# Altium schematic symbol library DebouncingToolESD.SchLib: 30 symbols
Pins are listed as number, name and electrical type; pins without a type are passive.

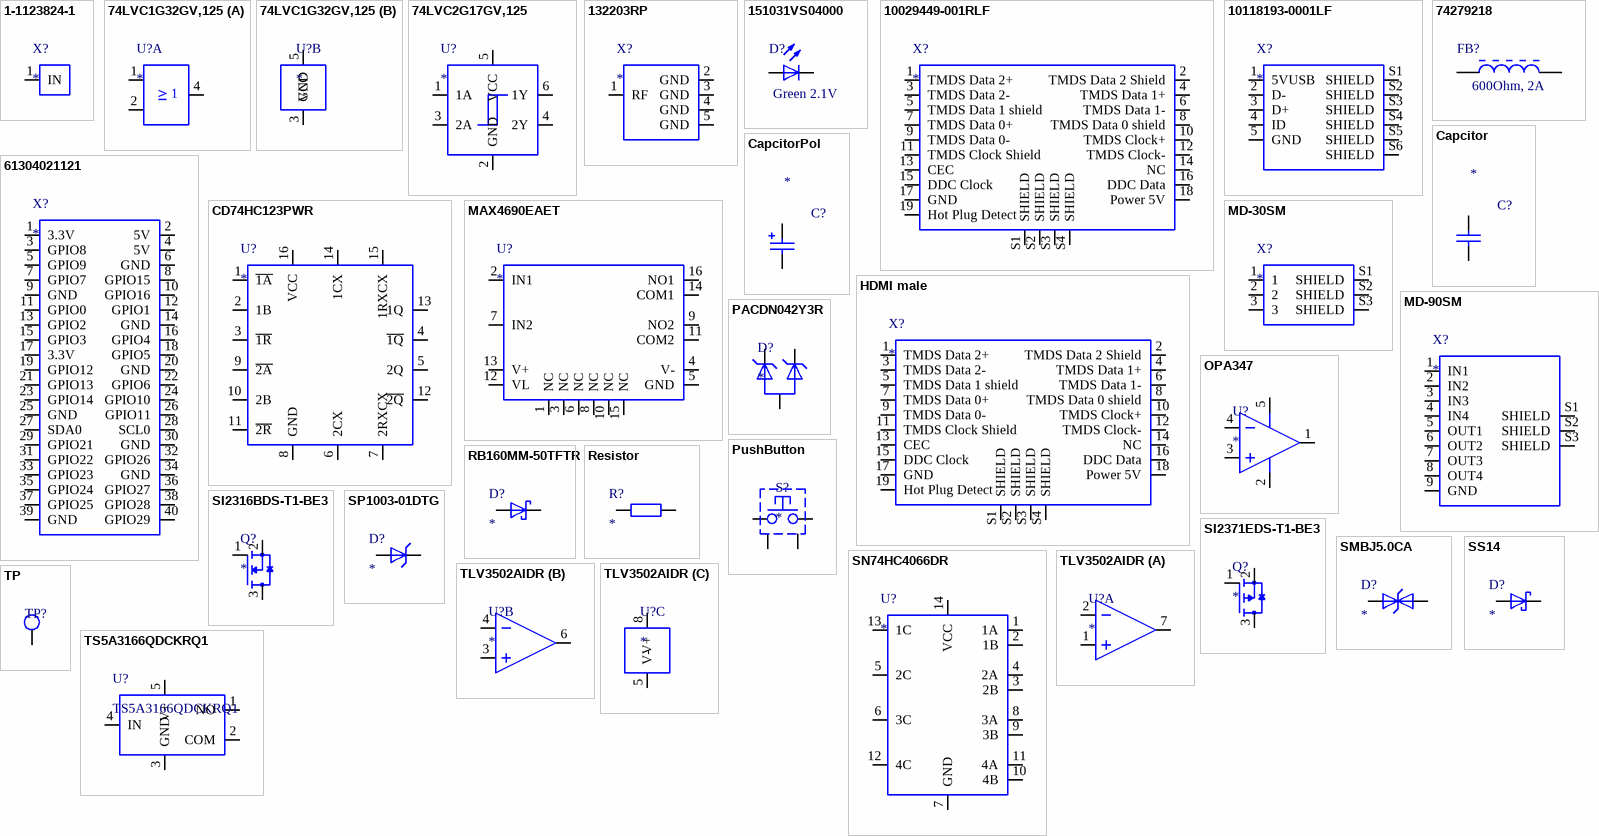
[diagram p0: symbols 1-1123824-1 to TS5A3166QDCKRQ1]

## 1-1123824-1
designator X?
Conn Shrouded Header HDR 1 POS Solder ST Thru-Hole Automotive Bag; MF: TE Connectivity; MP: 1-1123824-1; Package: None; Digi-Key_Part_Number: A30708-ND; Digi-Key_Purchase_URL: https://www.digikey.com/product-detail/en/te-connectivity-amp-connectors/1-1123824-1/A30708-ND/686939?utm_source=snapeda&utm_medium=aggregator&utm_campaign=symbol; Value: *; EU_RoHS_Compliance: Compliant; TE_purchase_URL: https://www.te.com/usa-en/product-1-1123824-1.html?te_bu=Cor&te_type=disp&te_campaign=seda_glo_cor-seda-global-disp-prtnr-fy19-seda-model-bom-cta_sma-317_1&elqCampaignId=32493; SnapEDA_Link: https://www.snapeda.com/parts/1-1123824-1/TE%20Connectivity%20AMP%20Connectors/view-part/1763302/?ref=snap
footprint TE_1-1123824-1
pins: 1 IN

## 74LVC1G32GV,125
designator U?
OR Gate
footprint SOT95P280X145-5N
part A pins: 1 A, 2 B, 4 Y
part B pins: 3 GND, 5 VCC

## 74LVC2G17GV,125
designator U?
Trigger de Schmitt
footprint SOT65P210X110-6N
pins: 1 1A, 2 GND, 3 2A, 4 2Y, 5 VCC, 6 1Y

## 132203RP
designator X?
RP-SMA Connector Jack, Male Pin 50Ohm Panel Mount, Through Hole, Right Angle Solder; MF: Amphenol RF; MP: 132203RP; Digi-Key_Purchase_URL: https://www.digikey.com/product-detail/en/amphenol-rf/132203RP/ACX1235-ND/1011912?utm_source=snapeda&utm_medium=aggregator&utm_campaign=symbol; Digi-Key_Part_Number: ACX1235-ND; Package: None; SnapEDA_Link: https://www.snapeda.com/parts/132203RP/Amphenol%20RF%20Division/view-part/425331/?ref=snap; Value: *
footprint AMPHENOL_132203RP
pins: 1 RF, 2 GND, 3 GND, 4 GND, 5 GND

## 151031VS04000
designator D?, comment Green 2.1V
WL-TMRC THT Mono-color Round Color, size 3mm, Bright Green, 2.1V, 40deg; Part Number: 151031VS04000; Luminous Intensity: 120mcd; Dominant Wavelength: 570nm; Peak Wavelength: 573nm; Chip Technology: AlInGaP; ComponentLink1Description: Manufacturer; ComponentLink1URL: http://www.we-online.de; ComponentLink2Description: Datasheet; ComponentLink2URL: https://katalog.we-online.de/led/datasheet/151031VS04000.pdf; Emitting Color: Bright Green; Operating Temperature: -40 to +85degC; Mounting Technology: THT; Forward Voltage: 2.1V; Packaging: Bulk; Published Date: January 2021; Publisher: Wurth Elektronik; Size: 3mm; Viewing Angle: 40deg
footprint WL-TMRC_3mm (THT Mono-color Round Color LED, 2-leads)
pins: 1 A, 2 K

## 10029449-001RLF
designator X?
HDMI HDMIâ„¢ 1.4 Receptacle Connector 19 Position Surface Mount, Right Angle; Through Hole; MP: 10029449-001RLF; MF: Amphenol ICC; Price: None; Package: None; Value: *; Availability: Unavailable; SnapEDA_Link: https://www.snapeda.com/parts/10029449-001RLF/Amphenol%20FCI/view-part/1592408/?ref=snap
footprint AMPHENOL_10029449-001RLF
pins: 1 TMDS Data 2+, 2 TMDS Data 2 Shield, 3 TMDS Data 2-, 4 TMDS Data 1+, 5 TMDS Data 1 shield, 6 TMDS Data 1-, 7 TMDS Data 0+, 8 TMDS Data 0 shield, 9 TMDS Data 0-, 10 TMDS Clock+, 11 TMDS Clock Shield, 12 TMDS Clock-, 13 CEC, 14 NC, 15 DDC Clock, 16 DDC Data, 17 GND, 18 Power 5V, 19 Hot Plug Detect, S1 SHIELD, S2 SHIELD, S3 SHIELD, S4 SHIELD

## 10118193-0001LF
designator X?
USB - micro B USB 2.0 Receptacle Connector 5 Position Surface Mount, Right Angle; Through Hole; MP: 10118193-0001LF; MF: Amphenol ICC; Availability: Unavailable; SnapEDA_Link: https://www.snapeda.com/parts/10118193-0001LF/Amphenol%20FCI/view-part/2758989/?ref=snap; Price: None; Value: *; Package: None
footprint FCI_10118193-0001LF
pins: 1 5VUSB, 2 D-, 3 D+, 4 ID, 5 GND, S1 SHIELD, S2 SHIELD, S3 SHIELD, S4 SHIELD, S5 SHIELD, S6 SHIELD

## 74279218
designator FB?, comment 600Ohm, 2A
WE-CBF SMT EMI Suppression Ferrite Bead, size 1206, 600Ohm, 2A; Manufacturer Part Number: 74279218; Manufacturer: Wurth Elektronik; Impedance max.: 700Ohm; DC Resistance max.: 0.1Ohm; Type: High Current; ComponentLink1Description: Manufacturer; ComponentLink1URL: http://www.we-online.de; ComponentLink2Description: Datasheet; ComponentLink2URL: https://www.we-online.com/catalog/datasheet/74279218.pdf; Operating Temperature: -55 to +125degC; Packaging: Tape and Reel; Published Date: March 2020; Rated Current: 2A; Impedance @100MHz: 600Ohm; Mounting Technology: SMT; Size: 1206
footprint WE-CBF_1206_High Speed (SMD EMI Suppression Ferrite  Bead, body 3.2x1.6mm)
pins: 1, 2

## 61304021121
designator X?
Connector; Manufacturer_Name: Wurth Elektronik; Manufacturer_Part_Number: 61304021121; Datasheet Link: https://katalog.we-online.com/em/datasheet/6130xx21121.pdf; Height: 8.69mm; Mouser Part Number: 710-61304021121; Mouser Price/Stock: https://www.mouser.co.uk/ProductDetail/Wurth-Elektronik/61304021121?qs=PhR8RmCirEYWKI5WqdDUyg%3D%3D
footprint 61304021121 (Pin Header, pitch 2.54 mm, THT, Vertical, dual row, 40p)
pins: 1 3.3V, 2 5V, 3 GPIO8, 4 5V, 5 GPIO9, 6 GND, 7 GPIO7, 8 GPIO15, 9 GND, 10 GPIO16, 11 GPIO0, 12 GPIO1, 13 GPIO2, 14 GND, 15 GPIO3, 16 GPIO4, 17 3.3V, 18 GPIO5, 19 GPIO12, 20 GND, 21 GPIO13, 22 GPIO6, 23 GPIO14, 24 GPIO10, 25 GND, 26 GPIO11, 27 SDA0, 28 SCL0, 29 GPIO21, 30 GND, 31 GPIO22, 32 GPIO26, 33 GPIO23, 34 GND, 35 GPIO24, 36 GPIO27, 37 GPIO25, 38 GPIO28, 39 GND, 40 GPIO29

## Capcitor
designator C?
Published: 8-Jun-2000; LatestRevisionDate: 17-Jul-2002; LatestRevisionNote: Re-released for DXP Platform.; PackageReference: RAD-0.3; Publisher: Altium Limited; PackageDescription: Radial Cap, Thru-Hole; 2 Leads; 0.3 in Pin Spacing
footprint CAPC1005X55N_0402
pins: 1, 2

## CapcitorPol
designator C?
Published: 8-Jun-2000; LatestRevisionDate: 17-Jul-2002; LatestRevisionNote: Re-released for DXP Platform.; PackageReference: RAD-0.3; Publisher: Altium Limited; PackageDescription: Radial Cap, Thru-Hole; 2 Leads; 0.3 in Pin Spacing
footprint CAP_EEEHD1A101AP
pins: 1 POS, 2 NEG

## CD74HC123PWR
designator U?
MP: CD74HC123PWR; Package: None; Price: None; Value: *; Availability: Unavailable
footprint SOP65P640X120-16N
pins: 1 ~{1A}, 2 1B, 3 ~{1R}, 4 ~{1Q}, 5 2Q, 6 2CX, 7 2RXCX, 8 GND, 9 ~{2A}, 10 2B, 11 ~{2R}, 12 ~{2Q}, 13 1Q, 14 1CX, 15 1RXCX, 16 VCC

## HDMI male
designator X?
Gold Plated HDMI 1.6mm 19Pin PCB Chassis SMD Socket Male Plug Connector; MP: 10029449-001RLF; MF: Amphenol ICC; Price: None; Package: None; Value: *; Availability: Unavailable; SnapEDA_Link: https://www.snapeda.com/parts/10029449-001RLF/Amphenol%20FCI/view-part/1592408/?ref=snap
footprint HDMI_MALE
pins: 1 TMDS Data 2+, 2 TMDS Data 2 Shield, 3 TMDS Data 2-, 4 TMDS Data 1+, 5 TMDS Data 1 shield, 6 TMDS Data 1-, 7 TMDS Data 0+, 8 TMDS Data 0 shield, 9 TMDS Data 0-, 10 TMDS Clock+, 11 TMDS Clock Shield, 12 TMDS Clock-, 13 CEC, 14 NC, 15 DDC Clock, 16 DDC Data, 17 GND, 18 Power 5V, 19 Hot Plug Detect, S1 SHIELD, S2 SHIELD, S3 SHIELD, S4 SHIELD

## MAX4690EAET
designator U?
MP: MAX4690EAET; Package: None; Price: None; Value: *; Availability: Unavailable
footprint SOP65P640X120-16N
pins: 1 NC, 2 IN1, 3 NC, 4 V-, 5 GND, 6 NC, 7 IN2, 8 NC, 9 NO2, 10 NC, 11 COM2, 12 VL, 13 V+, 14 COM1, 15 NC, 16 NO1

## MD-30SM
designator X?
3 Positions, Receptacle, Right Angle, Through Hole, Shielded, Mini Circular DIN Connector; MP: MD-30SM; Price: None; Availability: Unavailable; Package: None; Value: *
footprint CUI_MD-30SM
pins: 1, 2, 3, S1 SHIELD, S2 SHIELD, S3 SHIELD

## MD-90SM
designator X?
9 Positions, Receptacle, Right Angle, Through Hole, Shielded, Mini Circular DIN Connector; MP: MD-90SM; Price: None; Availability: Unavailable; Value: *; Package: None
footprint CUI_MD-90SM
pins: 1 IN1, 2 IN2, 3 IN3, 4 IN4, 5 OUT1, 6 OUT2, 7 OUT3, 8 OUT4, 9 GND, S1 SHIELD, S2 SHIELD, S3 SHIELD

## OPA347
designator U?
footprint SOT65P210X110-5N
pins: 1 OUTA, 2 GND (power), 3 POS, 4 NEG, 5 VCC (power)

## PACDN042Y3R
designator D?
footprint SOT95P237X111-3N
pins: 1, 2, 3 GND

## PushButton
designator S?
800SP9B7M6RE
footprint 800SP9B7M6RE
pins: 1, 2, 3, 4

## RB160MM-50TFTR
designator D?
Schottky Diode
footprint SODFL3516X90N
pins: 1 K, 2 A

## Resistor
designator R?
footprint RESC1005X40N_0402
pins: 1, 2

## SI2316BDS-T1-BE3
designator Q?
MOSFET Transistor, N Channel
footprint SOT95P237X111-3N
pins: 1 G, 2 S, 3 D

## SI2371EDS-T1-BE3
designator Q?
MOSFET Transistor, P Channel; MP: AP2321GN-HF-3TR; MF: Advanced Power Electronics; Value: *; Availability: Unavailable; Check_prices: https://www.snapeda.com/parts/AP2321GN-HF-3TR/Advanced%20Power%20Electronics/view-part/1102958/?ref=eda; SnapEDA_Link: https://www.snapeda.com/parts/AP2321GN-HF-3TR/Advanced%20Power%20Electronics/view-part/1102958/?ref=snap; Price: None; Package: SOT-23 Advanced Power Electronics
footprint SOT95P237X111-3N
pins: 1 G, 2 S, 3 D

## SMBJ5.0CA
designator D?
footprint SMB-DIODE
pins: 1 A, 2 C

## SN74HC4066DR
designator U?
5-V, 2:1 (SPDT), 4-channel analog switch 14-SOIC -40 to 85; MF: Texas Instruments; MP: SN74HC4066DR; Check_prices: https://www.snapeda.com/parts/SN74HC4066DR/Texas%20Instruments/view-part/1224004/?ref=eda; Value: *; SnapEDA_Link: https://www.snapeda.com/parts/SN74HC4066DR/Texas%20Instruments/view-part/1224004/?ref=snap; Price: None; Availability: Good; Package: SOIC-14 Texas Instruments; Purchase-URL: https://pricing.snapeda.com/search/part/SN74HC4066DR/?ref=eda
footprint SOIC127P600X175-14N
pins: 1 1A, 2 1B, 3 2B, 4 2A, 5 2C, 6 3C, 7 GND, 8 3A, 9 3B, 10 4B, 11 4A, 12 4C, 13 1C, 14 VCC

## SP1003-01DTG
designator D?
footprint SODFL1406X65N
pins: 1 C, 2 A

## SS14
designator D?
footprint DIO_ES1J
pins: 1 K, 2 A

## TLV3502AIDR
designator U?
footprint SOIC127P599X175-8N
part A pins: 1 +INA, 2 -INA, 7 OUTA
part B pins: 3 +INB, 4 -INB, 6 OUTB
part C pins: 5 V-, 8 V+

## TP
designator TP?  (value not drawn)
footprint TestPoint
pins: 1

## TS5A3166QDCKRQ1
designator U?
Vendor: Texas Instruments; Built_By: EMA_UL_Team; SourceLibrary: TI_2016-07-22; Manufacturer_Part_Number: TS5A3166QDCKRQ1; Manufacturer: Texas Instruments; Copyright: Copyright (C) 2021 Accelerated Designs. All rights reserved; RefDes: RefDes; Type: DEV
footprint SOT65P210X110-5N
pins: 1 NO, 2 COM, 3 GND, 4 IN, 5 V+